# Altium footprint library PcbLib3.PcbLib: 1 footprints
Each footprint in its own frame and in the unit in brackets; x right, y up, seen from the top. Pads: shape width x height; smd on the part's side, far side on the other; paste and mask are expansions set on the pad; w line width, h text height; cw(c..) or ccw(c..) is an arc to the next point about the centre after c.
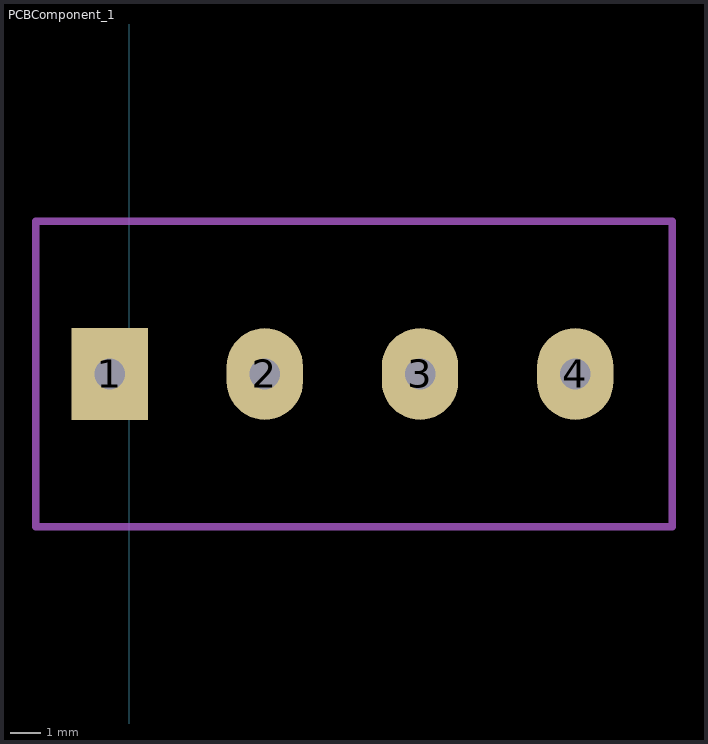
[diagram p0: the footprint, top view; thin cyan lines are the x and y axes]

## PCBComponent_1 [mm]
pads (4):
  rect 2.5x3 hole 1 unplated: 1(-0.635,14.732)
  oval 2.5x3 hole 1 unplated: 2(4.445,14.732) 3(9.525,14.732) 4(14.605,14.732)
Mechanical 1:
  lines w0.254: -3.055,9.732 17.78,9.732 17.78,19.732 -3.055,19.732 -3.055,9.732